# Altium schematic symbol library LTC3042.SchLib: 1 symbol
Pins are listed as number, name and electrical type; pins without a type are passive.

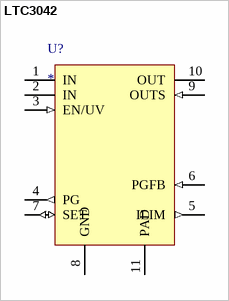
[diagram p0: symbol LTC3042]

## LTC3042
designator U?
Ultralow noise, Ultralow PSRR LDO
pins: 1 IN (power), 2 IN (power), 3 EN/UV (in), 4 PG (out), 5 ILIM (out), 6 PGFB (in), 7 SET (io), 8 GND (power), 9 OUTS (in), 10 OUT (power), 11 PAD (power)